# EAGLE library part RPIGPIOPINHD-2X20-SMD-FLIPPED (library pimoroni)
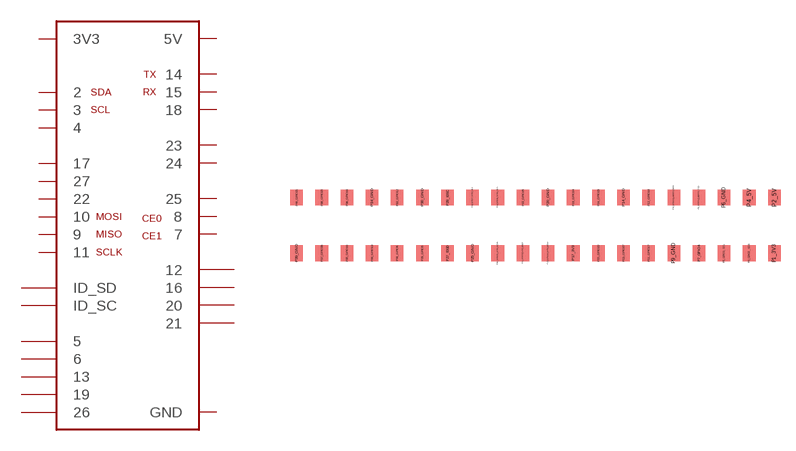
[diagram p50: symbol with the pads of FCI_89898_313LF_40P_CONNECTOR_SMT_FLIPPED; footprint FCI_89898_313LF_40P_CONNECTOR_SMT_FLIPPED]

Designator prefix -

## RPIGPIOPINHD-2X20-SMD-FLIPPED  [FCI_89898_313LF_40P_CONNECTOR_SMT_FLIPPED]
P1_3V3  3V3  pwr
P2_5V  5V  pwr
P3_GPIO2_SDA  2
P4_5V  5V  pwr
P5_GPIO3_SCL  3
P6_GND  GND  pas
P7_GPIO4  4
P8_GPIO14_UART0_TXD  14
P9_GND  GND  pas
P10_GPIO15_UART0_RXD  15
P11_GPIO17  17
P12_GPIO18  18
P13_GPIO27  27
P14_GND  GND  pas
P15_GPIO22  22
P16_GPIO23  23
P17_3V3  3V3  pwr
P18_GPIO24  24
P19_GPIO10_SPI0_MOSI  10
P20_GND  GND  pas
P21_GPIO9_SPI0_MISO  9
P22_GPIO25  25
P23_GPIO11_SPI0_SCLK  11
P24_GPIO8_SPI0_CE0  8
P25_GND  GND  pas
P26_GPIO7_SPI0_CE1  7
P27_IDSD  ID_SD
P28_IDSC  ID_SC
P29_GPIO5  5
P30_GND  GND  pas
P31_GPIO6  6
P32_GPIO12  12
P33_GPIO13  13
P34_GND  GND  pas
P35_GPIO19  19
P36_GPIO16  16
P37_GPIO26  26
P38_GPIO20  20
P39_GND  GND  pas
P40_GPIO21  21

## Footprint FCI_89898_313LF_40P_CONNECTOR_SMT_FLIPPED (pad centres in mm)
smd 1.27 x 1.57: P1_3V3 24.13,-2.81; P2_5V 24.13,2.81; P3_GPIO2_SDA 21.59,-2.81; P4_5V 21.59,2.81; P5_GPIO3_SCL 19.05,-2.81; P6_GND 19.05,2.81; P7_GPIO4 16.51,-2.81; P8_GPIO14_UART0_TXD 16.51,2.81; P9_GND 13.97,-2.81; P10_GPIO15_UART0_RXD 13.97,2.81; P11_GPIO17 11.43,-2.81; P12_GPIO18 11.43,2.81; P13_GPIO27 8.89,-2.81; P14_GND 8.89,2.81; P15_GPIO22 6.35,-2.81; P16_GPIO23 6.35,2.81; P17_3V3 3.81,-2.81; P18_GPIO24 3.81,2.81; P19_GPIO10_SPI0_MOSI 1.27,-2.81; P20_GND 1.27,2.81; P21_GPIO9_SPI0_MISO -1.27,-2.81; P22_GPIO25 -1.27,2.81; P23_GPIO11_SPI0_SCLK -3.81,-2.81; P24_GPIO8_SPI0_CE0 -3.81,2.81; P25_GND -6.35,-2.81; P26_GPIO7_SPI0_CE1 -6.35,2.81; P27_IDSD -8.89,-2.81; P28_IDSC -8.89,2.81; P29_GPIO5 -11.43,-2.81; P30_GND -11.43,2.81; P31_GPIO6 -13.97,-2.81; P32_GPIO12 -13.97,2.81; P33_GPIO13 -16.51,-2.81; P34_GND -16.51,2.81; P35_GPIO19 -19.05,-2.81; P36_GPIO16 -19.05,2.81; P37_GPIO26 -21.59,-2.81; P38_GPIO20 -21.59,2.81; P39_GND -24.13,-2.81; P40_GPIO21 -24.13,2.81